# Altium schematic symbol library LM7805S_NOPB.SchLib: 1 symbol
Pins are listed as number, name and electrical type; pins without a type are passive.

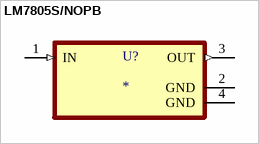
[diagram p0: symbol LM7805S/NOPB]

## LM7805S/NOPB
designator U?
MF: {'manufacturer': u'Texas Instruments'}; MP: LM7805S/NOPB; Price: None; Package: None; Availability: Unavailable; Value: *
footprint TO254P1524X483-4N
pins: 1 IN (in), 2 GND (power), 3 OUT (out), 4 GND (power)